# EAGLE library part 6120XX20621_61202620621 (library con-wurth)
WR-BHD 2.54 mm Male SMT Box Header KIND PROPERTIES: Pitch 2.54 mm Gender:Male MATERIAL PROPERTIES: Insulator Material:PA6T Insulator Flammability Rating UL94 V-0 Insulator Color:Black Contact Material :Copper Alloy Contact Plating :Gold Contact Type: Stamped GENERAL INFORMATION: Operating Temperature:-40 °C up to +125 °C Compliance:RoHS Working Voltage: 250 V (AC) Withstanding Voltage:500 V (AC) Contact Resistance: 20 mΩ Insulation Resistance:1000 MΩ CERTIFICATION: UL Approval:E323964 PACKAGING PROPERTIES Packaging :Tube <https://www.we-online.de/katalog/media/o32919v209%20Family_WR-BHD_612xxx20621.jpg> Details see: https://www.we-online.de/katalog/en/em/BHD_2_54_SMT_MALE_BOX_HEADER_6120XX20621 Updated by Yingchun,Shan 2019-10-30 2019 (C) Würth Elektronik
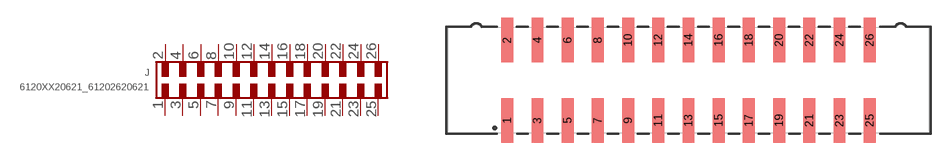
[diagram p14: symbol with the pads of 61202620621; footprint 61202620621]

Designator prefix J

## 6120XX20621_61202620621 (CONTACT-RESISTANCE: 20mOhm; DATASHEET-URL: https://www.we-online.com/redexpert/spec/61202620621?ae; GENDER: Male; IR: 3A; LENGTH: 40.82mm; MOUNT: SMT; PACKAGING: Tube; PART-NUMBER: 61202620621; PINS: 26; PITCH: 2.54mm; TYPE: Straight; VALUE: 61202620621; WORKING-VOLTAGE: 250V(AC))  [61202620621]
1  1  pas
2  2  pas
3  3  pas
4  4  pas
5  5  pas
6  6  pas
7  7  pas
8  8  pas
9  9  pas
10  10  pas
11  11  pas
12  12  pas
13  13  pas
14  14  pas
15  15  pas
16  16  pas
17  17  pas
18  18  pas
19  19  pas
20  20  pas
21  21  pas
22  22  pas
23  23  pas
24  24  pas
25  25  pas
26  26  pas

## Footprint 61202620621 (pad centres in mm)
WR-BHD 2.54 mm Male SMT Box Header, 26 pins
smd 1 x 3.75: 1 -15.24,-3.375; 2 -15.24,3.375; 3 -12.7,-3.375; 4 -12.7,3.375; 5 -10.16,-3.375; 6 -10.16,3.375; 7 -7.62,-3.375; 8 -7.62,3.375; 9 -5.08,-3.375; 10 -5.08,3.375; 11 -2.54,-3.375; 12 -2.54,3.375; 13 0,-3.375; 14 0,3.375; 15 2.54,-3.375; 16 2.54,3.375; 17 5.08,-3.375; 18 5.08,3.375; 19 7.62,-3.375; 20 7.62,3.375; 21 10.16,-3.375; 22 10.16,3.375; 23 12.7,-3.375; 24 12.7,3.375; 25 15.24,-3.375; 26 15.24,3.375